# Altium schematic symbol library Antenna.SchLib: 2 symbols
Pins are listed as number, name and electrical type; pins without a type are passive.

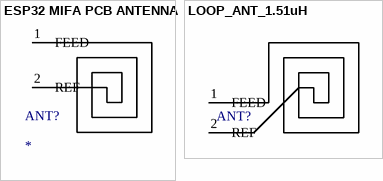
[diagram p0: symbols ESP32 MIFA PCB ANTENNA to LOOP_ANT_1.51uH]

## ESP32 MIFA PCB ANTENNA
designator ANT?
footprint ESP32 MIFA PCB ANTENNA
pins: 1 FEED, 2 REF

## LOOP_ANT_1.51uH
designator ANT?
LOOP_ANT_1.51uH_4t_40L_45W_0.4W_0.8P
footprint LOOP_ANT_1.51uH
pins: 1 FEED, 2 REF